# Altium footprint library Connector-SDCard.PcbLib: 4 footprints
Each footprint in its own frame and in the unit in brackets; x right, y up, seen from the top. Pads: shape width x height; smd on the part's side, far side on the other; paste and mask are expansions set on the pad; w line width, h text height; cw(c..) or ccw(c..) is an arc to the next point about the centre after c.
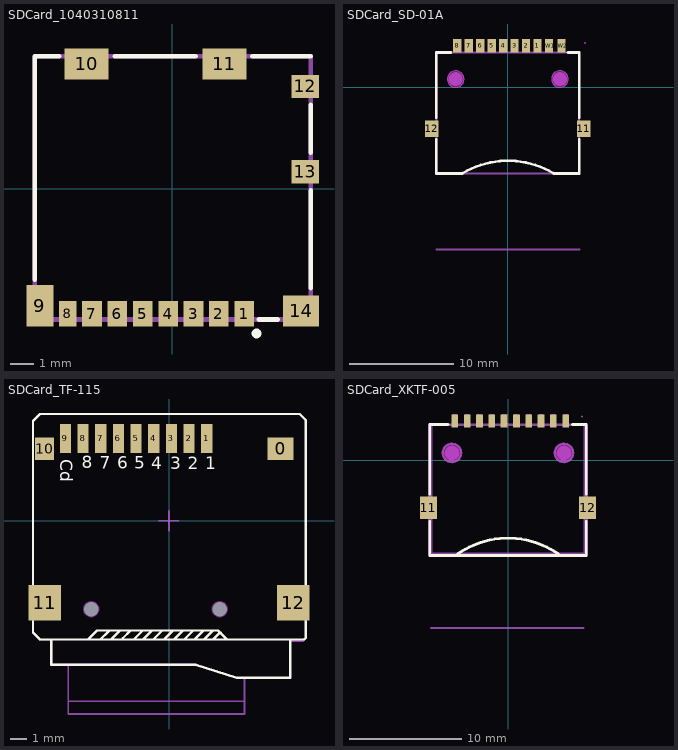
[diagram p0: the footprints below, top view; thin cyan lines are the x and y axes]

## SDCard_1040310811 [mm]
pads (14):
  rect 0.85x1.1 smd: 1(3.113,-5.412) 2(2.013,-5.412) 3(0.913,-5.412) 4(-0.188,-5.412) 5(-1.288,-5.412) 6(-2.387,-5.412) 7(-3.487,-5.412)
  rect 0.75x1.1 smd: 8(-4.537,-5.412)
  rect 1.17x1.8 smd: 9(-5.747,-5.062)
  rect 1.9x1.35 smd: 10(-3.722,5.413) 11(2.248,5.413)
  rect 1.2x1 smd: 12(5.748,4.438) 13(5.748,0.738)
  rect 1.55x1.35 smd: 14(5.573,-5.287)
Top Overlay:
  circle w0.2: c3.642,-6.267 r0.113
  lines w0.2: -5.967,-3.941 -5.967,5.738 -4.907,5.738 ; -2.492,5.738 1.008,5.738 ; 3.463,5.738 5.983,5.738 ; 3.746,-5.662 4.568,-5.662 ; 5.983,-4.295 5.983,-0.061 ; 5.983,1.554 5.983,3.635
Top Component Outline:
  lines w0.2: -5.967,-5.662 -5.967,5.738 5.983,5.738 5.983,-5.662 -5.967,-5.662
Top Value:
  text "'.Comment'" at -3.189,-0.518 h1.52
Top Designator:
  text "'.Designator'" at -4.996,-0.757 h1.78
Top Assembly (Mech20):
  lines w0.2: -5.967,-5.662 -5.967,5.738 5.983,5.738 5.983,-5.662 -5.967,-5.662
3D body "104031-0811.stp": height 1.44, standoff -0.01, extent -5.867,-5.545 6.083,5.855
3D body "Micro SD card.SLDPRT": height 1.51, standoff 0.49, extent -5.192,-9.662 5.807,5.338

## SDCard_SD-01A [mil]
pads (12):
  rect 31.5x51.2 smd mask+2: 1(112.2,156.5) 2(68.9,156.5) 3(25.6,156.5) 4(-17.7,156.5) 5(-61,156.5) 6(-104.3,156.5) 7(-147.6,156.5) 8(-190.9,156.5) SW1(155.5,156.5) SW2(202.8,156.5)
  rect 51.2x63 smd mask+2: 11(287.4,-156.5) 12(-287.4,-156.5)
Top Overlay:
  lines w10: -269.7,-197.1 -269.7,-325.8 -172.5,-325.8 ; -269.7,-115.9 -269.7,130.9 -215.8,130.9 ; -172.46,-325.79 cw(c0.86,-614.56) 174.2,-325.8 269.7,-325.8 269.7,-197.1 ; 227.6,130.9 269.7,130.9 269.7,-115.9
Keep-Out Layer:
  board cut-out: 228.4,30.5 228.4,34.65 226.25,42.66 222.11,49.84 216.24,55.71 209.06,59.85 201.05,62 192.75,62 184.74,59.85 177.56,55.71 171.69,49.84 167.55,42.66 165.4,34.65 165.4,30.5 165.4,26.35 167.55,18.34 171.69,11.16 177.56,5.29 184.74,1.15 192.75,-1 201.05,-1 209.06,1.15 216.24,5.29 222.11,11.16 226.25,18.34 228.4,26.35 228.4,30.5
  board cut-out: -165.3,30.5 -165.3,34.65 -167.45,42.66 -171.59,49.84 -177.46,55.71 -184.64,59.85 -192.65,62 -200.95,62 -208.96,59.85 -216.14,55.71 -222.01,49.84 -226.15,42.66 -228.3,34.65 -228.3,30.5 -228.3,26.35 -226.15,18.34 -222.01,11.16 -216.14,5.29 -208.96,1.15 -200.95,-1 -192.65,-1 -184.64,1.15 -177.46,5.29 -171.59,11.16 -167.45,18.34 -165.3,26.35 -165.3,30.5
  board cut-out: 165.4,30.5 165.4,27.4 166.61,21.31 168.99,15.58 172.43,10.42 176.82,6.03 181.98,2.58 187.71,0.21 193.8,-1 196.9,-1 200,-1 206.09,0.21 211.82,2.58 216.98,6.03 221.37,10.42 224.81,15.58 227.19,21.31 228.4,27.4 228.4,30.5 228.4,33.6 227.19,39.69 224.81,45.42 221.37,50.58 216.98,54.97 211.82,58.41 206.09,60.79 200,62 196.9,62 193.8,62 187.71,60.79 181.98,58.41 176.82,54.97 172.43,50.58 168.99,45.42 166.61,39.69 165.4,33.6
  board cut-out: -196.8,-1 -199.9,-1 -205.99,0.21 -211.72,2.58 -216.88,6.03 -221.27,10.42 -224.71,15.58 -227.09,21.31 -228.3,27.4 -228.3,30.5 -228.3,33.6 -227.09,39.69 -224.71,45.42 -221.27,50.58 -216.88,54.97 -211.72,58.41 -205.99,60.79 -199.9,62 -196.8,62 -193.7,62 -187.61,60.79 -181.88,58.41 -176.72,54.97 -172.33,50.58 -168.88,45.42 -166.51,39.69 -165.3,33.6 -165.3,30.5 -165.3,27.4 -166.51,21.31 -168.88,15.58 -172.33,10.42 -176.72,6.03 -181.88,2.58 -187.61,0.21 -193.7,-1
Board Outline:
  circle w3.94: c196.9,30.5 r31.5
  circle w3.94: c-196.8,30.5 r31.5
Top Value:
  text "'.Comment'" at -130.96,-17.95 h60
Top Designator:
  text "'.Designator'" at -202.12,-27.34 h70
Top Assembly (Mech20):
  region: 269.5,-178.1 269.5,-134.8 291.3,-134.8 291.3,-178.1
  region: -269.5,-134.8 -269.5,-178.1 -291.3,-178.1 -291.3,-134.8
  region: 106.3,166 118.1,166 118.1,130.4 106.3,130.4
  region: 63,166 74.8,166 74.8,130.4 63,130.4
  region: 19.7,166 31.5,166 31.5,130.4 19.7,130.4
  region: -23.6,166 -11.8,166 -11.8,130.4 -23.6,130.4
  region: -66.9,166 -55.1,166 -55.1,130.4 -66.9,130.4
  region: -110.2,166 -98.4,166 -98.4,130.4 -110.2,130.4
  region: -153.5,166 -141.7,166 -141.7,130.4 -153.5,130.4
  region: -196.8,166 -185,166 -185,130.4 -196.8,130.4
  region: 149.6,166 161.4,166 161.4,130.4 149.6,130.4
  region: 196.8,166 208.7,166 208.7,130.4 196.8,130.4
  region: 222.5,30.5 222.5,33.87 220.76,40.38 217.38,46.22 212.62,50.98 206.78,54.36 200.27,56.1 193.53,56.1 187.02,54.36 181.18,50.98 176.41,46.22 173.04,40.38 171.3,33.87 171.3,30.5 171.3,27.13 173.04,20.62 176.41,14.78 181.18,10.01 187.02,6.64 193.53,4.9 200.27,4.9 206.78,6.64 212.62,10.01 217.38,14.78 220.76,20.62 222.5,27.13 222.5,30.5
  region: -171.2,30.5 -171.2,33.87 -172.94,40.38 -176.31,46.22 -181.08,50.98 -186.92,54.36 -193.43,56.1 -200.17,56.1 -206.68,54.36 -212.52,50.98 -217.29,46.22 -220.66,40.38 -222.4,33.87 -222.4,30.5 -222.4,27.13 -220.66,20.62 -217.29,14.78 -212.52,10.01 -206.68,6.64 -200.17,4.9 -193.43,4.9 -186.92,6.64 -181.08,10.01 -176.31,14.78 -172.94,20.62 -171.2,27.13 -171.2,30.5
  region: 293.8,166.5 293.8,167.49 292.39,168.9 290.41,168.9 289,167.49 289,166.5 289,165.51 290.41,164.1 292.39,164.1 293.8,165.51 293.8,166.5
  lines w7.87: -269.7,-613.6 271.65,-613.6 ; -269.7,-326.2 269.7,-326.2 269.7,130.5 -269.7,130.5 -269.7,-326.2
3D body "sd-01a.stp": height 80.28, standoff -13.77, extent -291.34,-326.2 291.34,165.93

## SDCard_TF-115 [mm] "自弹式TF卡座"
pads (15):
  rect 1.6x1.4 smd: 0(6.95,4.487)
  rect 0.7x1.8 smd: 1(2.35,5.114) 2(1.25,5.114) 3(0.15,5.114) 4(-0.95,5.114) 5(-2.05,5.114) 6(-3.15,5.114) 7(-4.25,5.114) 8(-5.35,5.114) 9(-6.45,5.114)
  rect 1.2x1.4 smd: 10(-7.75,4.487)
  rect 2.032x2.2 smd: 11(-7.75,-5.114) 12(7.75,-5.114)
  round 0 hole 0.9 unplated: MH(-4.85,-5.513) MH(3.15,-5.513)
Top Overlay:
  lines w0.152: -7.327,-7.409 -7.327,-8.983 1.664,-8.983 ; -4.279,-7.409 -3.746,-6.875 -3.746,-6.85 ; -3.619,-7.409 -3.111,-6.901 -3.111,-6.85 ; -2.882,-7.409 -2.882,-7.332 -2.4,-6.85 ; -2.197,-7.409 -1.638,-6.85 -1.612,-6.85 ; -1.612,-7.409 -1.079,-6.875 -1.079,-6.85 ; -0.977,-7.409 -0.419,-6.85 -0.317,-6.85 ; -0.317,-7.409 0.242,-6.85 0.267,-6.85 ; 0.318,-7.409 0.851,-6.875 0.851,-6.85 ; 0.953,-7.409 1.512,-6.85 1.639,-6.85 ; 1.588,-7.409 2.147,-6.85 2.172,-6.85 ; 1.639,-8.983 4.204,-9.796 7.557,-9.796 7.557,-7.434 ; 2.172,-7.409 2.731,-6.85 ; 2.731,-7.409 3.137,-7.002 3.214,-7.002 ; -8.039,-7.409 -5.041,-7.409 -4.483,-6.85 3.061,-6.85 3.62,-7.409 8.421,-7.409 ; -8.039,-7.409 8.421,-7.409 ; -8.039,-7.409 -8.47,-6.977 -8.47,6.206 -8.039,6.638 8.141,6.638 8.522,6.257 8.522,-7.307 8.421,-7.409
  text "1" at 2.248,3.183 h0.76
  text "2" at 1.156,3.209 h0.76
  text "3" at 0.089,3.209 h0.76
  text "4" at -1.104,3.209 h0.76
  text "5" at -2.171,3.234 h0.76
  text "6" at -3.238,3.234 h0.76
  text "7" at -4.305,3.234 h0.76
  text "8" at -5.422,3.259 h0.76
  text "Cd" at -6.769,3.818 h0.76
Keep-Out Layer:
  board cut-out: 2.65,-5.513 2.65,-5.613 2.726,-5.797 2.867,-5.937 3.051,-6.013 3.15,-6.013 3.249,-6.013 3.433,-5.937 3.574,-5.797 3.65,-5.613 3.65,-5.513 3.65,-5.414 3.574,-5.23 3.433,-5.09 3.249,-5.013 3.15,-5.013 3.051,-5.013 2.867,-5.09 2.726,-5.23 2.65,-5.414
  board cut-out: -5.35,-5.513 -5.35,-5.613 -5.274,-5.797 -5.133,-5.937 -4.949,-6.013 -4.85,-6.013 -4.751,-6.013 -4.567,-5.937 -4.426,-5.797 -4.35,-5.613 -4.35,-5.513 -4.35,-5.414 -4.426,-5.23 -4.567,-5.09 -4.751,-5.013 -4.85,-5.013 -4.949,-5.013 -5.133,-5.09 -5.274,-5.23 -5.35,-5.414
Top Component Outline:
  lines w0.1: -8.45,-6.975 -8.025,-7.425 -7.375,-7.425 -7.3,-7.5 -7.3,-8.95 1.65,-8.95 4.2,-9.8 7.525,-9.8 7.525,-7.5 8.35,-7.5 8.525,-7.325 8.525,6.25 8.5,6.25 8.125,6.625 -8.025,6.625 -8.05,6.625 -8.45,6.225 -8.45,-6.975
  text "Push" at -1.27,-11.929 h1.02
Top Component Center:
  lines w0.1: -0.625,0 0.6,0 ; 0,-0.625 0,0.6
Top Value:
  text "'.Comment'" at -3.326,-0.456 h1.52
Top Designator:
  text "'.Designator'" at -5.134,-0.694 h1.78
Top Assembly (Mech20):
  lines w0.1: -6.275,-9.975 -6.275,-12.05 4.7,-12.05 4.7,-9.8 ; -6.275,-8.95 -6.275,-11.25 4.7,-11.25
3D body "tf-01a.stp": height 1.86, standoff -0.6, extent -7.9,-9.53 8.2,5.67
3D body "User Library-microsd card.STEP": height 1.8, standoff 0.8, extent -6.306,-12.05 4.706,2.95

## SDCard_XKTF-005 [mm]
pads (12):
  rect 0.6x1.2 smd mask+0.05: 1(2.95,3.5) 2(1.85,3.5) 3(0.75,3.5) 4(-0.35,3.5) 5(-1.45,3.5) 6(-2.55,3.5) 7(-3.65,3.5) 8(-4.75,3.5) 9(4.05,3.5) 10(5.15,3.5)
  rect 1.5x2 smd mask+0.05: 11(-7.1,-4.25) 12(7.1,-4.25)
Top Overlay:
  lines w0.254: -6.985,-5.481 -6.985,-8.509 6.985,-8.509 6.985,-5.481 ; -6.985,-3.019 -6.985,3.175 -5.369,3.175 ; -4.685,-8.509 cw(c0,-14.807) 4.685,-8.508 ; 5.768,3.175 6.985,3.175 6.985,-3.019
Keep-Out Layer:
  board cut-out: -5,-0.175 -5.081,-0.175 -5.241,-0.143 -5.391,-0.081 -5.526,0.009 -5.641,0.124 -5.731,0.259 -5.793,0.409 -5.825,0.569 -5.825,0.65 -5.825,0.731 -5.793,0.891 -5.731,1.041 -5.641,1.176 -5.526,1.291 -5.391,1.381 -5.241,1.443 -5.081,1.475 -5,1.475 -4.919,1.475 -4.759,1.443 -4.609,1.381 -4.474,1.291 -4.359,1.176 -4.269,1.041 -4.207,0.891 -4.175,0.731 -4.175,0.65 -4.175,0.569 -4.207,0.409 -4.269,0.259 -4.359,0.124 -4.474,0.009 -4.609,-0.081 -4.759,-0.143 -4.919,-0.175
  board cut-out: 4.175,0.65 4.175,0.569 4.207,0.409 4.269,0.259 4.359,0.124 4.474,0.009 4.609,-0.081 4.759,-0.143 4.919,-0.175 5,-0.175 5.081,-0.175 5.241,-0.143 5.391,-0.081 5.526,0.009 5.641,0.124 5.731,0.259 5.793,0.409 5.825,0.569 5.825,0.65 5.825,0.731 5.793,0.891 5.731,1.041 5.641,1.176 5.526,1.291 5.391,1.381 5.241,1.443 5.081,1.475 5,1.475 4.919,1.475 4.759,1.443 4.609,1.381 4.474,1.291 4.359,1.176 4.269,1.041 4.207,0.891 4.175,0.731
  board cut-out: 5.825,0.65 5.825,0.759 5.769,0.969 5.66,1.157 5.507,1.31 5.318,1.419 5.109,1.475 4.891,1.475 4.682,1.419 4.493,1.31 4.34,1.157 4.231,0.969 4.175,0.759 4.175,0.65 4.175,0.542 4.231,0.332 4.34,0.144 4.493,-0.01 4.682,-0.119 4.891,-0.175 5.109,-0.175 5.318,-0.119 5.507,-0.01 5.66,0.144 5.769,0.332 5.825,0.542 5.825,0.65
  board cut-out: -4.175,0.65 -4.175,0.759 -4.231,0.969 -4.34,1.157 -4.493,1.31 -4.682,1.419 -4.891,1.475 -5.109,1.475 -5.318,1.419 -5.507,1.31 -5.66,1.157 -5.769,0.969 -5.825,0.759 -5.825,0.65 -5.825,0.542 -5.769,0.332 -5.66,0.144 -5.507,-0.01 -5.318,-0.119 -5.109,-0.175 -4.891,-0.175 -4.682,-0.119 -4.493,-0.01 -4.34,0.144 -4.231,0.332 -4.175,0.542 -4.175,0.65
Board Outline:
  circle w0.2: c5,0.65 r0.825
  circle w0.2: c-5,0.65 r0.825
Top Component Center:
  circle w0.65: c-5,0.65 r0.325
  circle w0.65: c5,0.65 r0.325
  region: -5.35,3.25 -7.05,3.25 -7.1,3.2 -7.1,-8.5 -7,-8.6 7,-8.6 7.1,-8.5 7.1,3.15 7,3.25 5.75,3.25 5.75,3.1 6.95,3.1 6.95,-8.45 -6.95,-8.45 -6.95,3.15 -5.35,3.15
Top Value:
  text "'.Comment'" at -3.326,-0.456 h1.52
Top Designator:
  text "'.Designator'" at -5.134,-0.694 h1.78
Top Assembly (Mech20):
  region: -7.248,-3.65 -6.698,-3.65 -6.698,-4.85 -7.248,-4.85
  region: 6.698,-3.65 7.248,-3.65 7.248,-4.85 6.698,-4.85
  region: 6.677,3.892 6.677,3.917 6.642,3.952 6.593,3.952 6.557,3.917 6.557,3.892 6.557,3.868 6.593,3.832 6.642,3.832 6.677,3.868 6.677,3.892
  region: -4.925,4.125 -4.575,4.125 -4.575,3.175 -4.925,3.175
  region: -3.825,4.125 -3.475,4.125 -3.475,3.175 -3.825,3.175
  region: -2.725,4.125 -2.375,4.125 -2.375,3.175 -2.725,3.175
  region: -1.625,4.125 -1.275,4.125 -1.275,3.175 -1.625,3.175
  region: -0.525,4.125 -0.175,4.125 -0.175,3.175 -0.525,3.175
  region: 0.575,4.125 0.925,4.125 0.925,3.175 0.575,3.175
  region: 1.675,4.125 2.025,4.125 2.025,3.175 1.675,3.175
  region: 2.775,4.125 3.125,4.125 3.125,3.175 2.775,3.175
  region: 3.875,4.125 4.225,4.125 4.225,3.175 3.875,3.175
  region: 4.975,4.125 5.325,4.125 5.325,3.175 4.975,3.175
  lines w0.2: -6.858,-14.975 6.725,-14.975 ; -6.858,-8.325 6.842,-8.325 6.842,3.175 -6.858,3.175 -6.858,-8.325
3D body "xktf-005.stp": height 1.75, standoff -0.55, extent -7.338,-8.467 7.364,4.033